# EAGLE library part RXQ1* (library telecontrolli)
RXQ1-433.9 Dual Band FM Transceiver Source: http://www.telecontrolli.com/pdf/transceivers/RXQ1.pdf
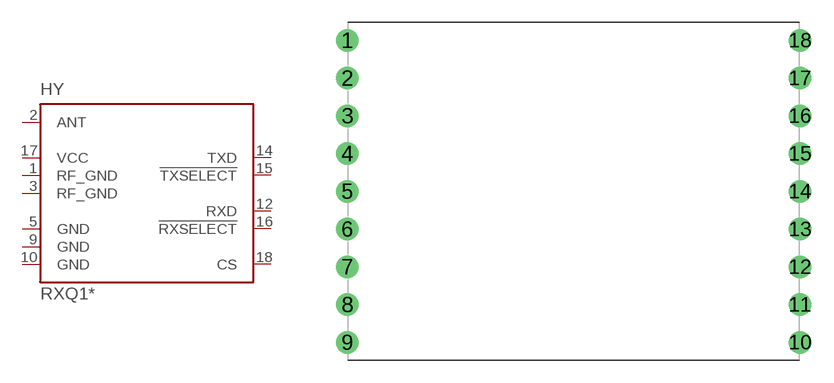
[diagram p1: symbol with the pads of RXQ1; footprint RXQ1]

Designator prefix HY

## RXQ1-433.9  [RXQ1]
1  RF_GND  pwr
2  ANT  in
3  RF_GND  pwr
5  GND  pwr
9  GND  pwr
10  GND  pwr
12  RXD  out
14  TXD  in
15  !TXSELECT  in
16  !RXSELECT  in
17  VCC  pwr
18  CS  in

## Footprint RXQ1 (pad centres in mm)
RXQ1-433.9 Dual Band FM Transceiver Source: http://www.telecontrolli.com/pdf/transceivers/RXQ1.pdf
drill 1 pad 1.422 round: 1 -15.24,10.16; 2 -15.24,7.62; 3 -15.24,5.08; 4 -15.24,2.54; 5 -15.24,0; 6 -15.24,-2.54; 7 -15.24,-5.08; 8 -15.24,-7.62; 9 -15.24,-10.16; 10 15.24,-10.16; 11 15.24,-7.62; 12 15.24,-5.08; 13 15.24,-2.54; 14 15.24,0; 15 15.24,2.54; 16 15.24,5.08; 17 15.24,7.62; 18 15.24,10.16